# EAGLE library part ADT75ARMZ (library tofu)
±1°C Accurate, 12-Bit Digital Temperature Sensor
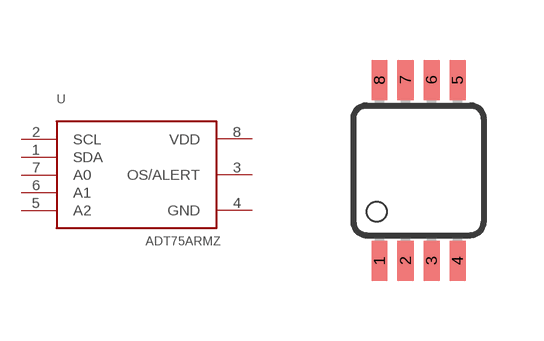
[diagram p0: symbol with the pads of MSOP08; footprint MSOP08]

Designator prefix -

## ADT75ARMZ  [MSOP08]
1  SDA
2  SCL  in
3  OS/ALERT
4  GND  pwr
5  A2  in
6  A1  in
7  A0  in
8  VDD  pwr

## Footprint MSOP08 (pad centres in mm)
8-Lead micro SO (RM-8) Source: http://www.analog.com/UploadedFiles/Data_Sheets/703465986AD8611_2_0.pdf
smd 0.4 x 1: 1 -0.976,-2.263; 2 -0.326,-2.263; 3 0.324,-2.263; 4 0.974,-2.263; 5 0.974,2.262; 6 0.324,2.262; 7 -0.326,2.262; 8 -0.976,2.262